# EAGLE library part MCP2221 (library Microchip_MCP2221)
Microchip MCP2221 USB 2.0 to I2C/UART Protocol Converter with GPIO Created by Giovanni Bernardo www.settorezero.com Description The MCP2221A is a USB-to-UART/I2C serial converter which enables USB connectivity in applications that have a UART and I2C interfaces. The device reduces external components by integrating the USB termination resistors and the oscillator needed for USB operation. The MCP2221A also has four GP pins providing miscellaneous functionalities (GPIO, USBCFG, SSPND, Clock Output, ADC, DAC, interrupt detector). The MCP2221A is identical to the MCP2221 in all aspects except for the maximum supported baud rate of the UART, which has been increased from 115200 (MCP2221) to 460800 (MCP2221A). All MCP2221 USB Drivers and Software can be used for the MCP2221A. Link to Microchip page about MCP2221 <https://www.microchip.com/wwwproducts/en/MCP2221A>
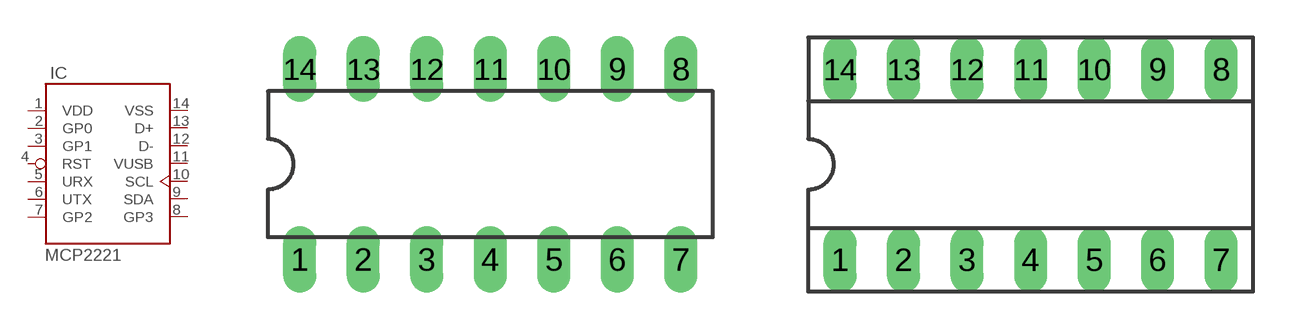
[diagram p0: symbol with the pads of DIL14; footprints DIL14, SOCKET-14]

Designator prefix IC

## MCP2221  [DIL14]
1  VDD  pwr
2  GP0
3  GP1  pas
4  RST  in
5  URX  in
6  UTX  out
7  GP2
8  GP3
9  SDA
10  SCL
11  VUSB  pwr
12  D-
13  D+
14  VSS  pwr

## MCP2221S  [SOCKET-14]
Pads as for DIL14

## Footprint DIL14 (pad centres in mm)
drill 0.813 long: 1 -7.62,-3.81; 2 -5.08,-3.81; 3 -2.54,-3.81; 4 0,-3.81; 5 2.54,-3.81; 6 5.08,-3.81; 7 7.62,-3.81; 8 7.62,3.81; 9 5.08,3.81; 10 2.54,3.81; 11 0,3.81; 12 -2.54,3.81; 13 -5.08,3.81; 14 -7.62,3.81

## Footprint SOCKET-14 (pad centres in mm)
drill 0.813 long: 1 -7.62,-3.81; 2 -5.08,-3.81; 3 -2.54,-3.81; 4 0,-3.81; 5 2.54,-3.81; 6 5.08,-3.81; 7 7.62,-3.81; 8 7.62,3.81; 9 5.08,3.81; 10 2.54,3.81; 11 0,3.81; 12 -2.54,3.81; 13 -5.08,3.81; 14 -7.62,3.81